# Altium schematic symbol library Buck_Conv_SCHLib.SchLib: 20 symbols (part 2 of 2)
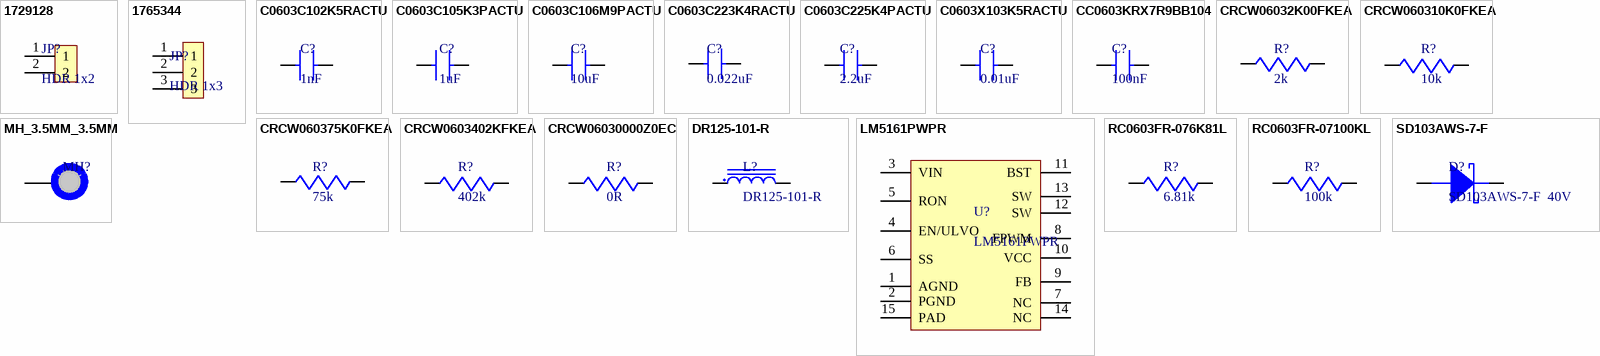
[diagram p1: symbols 1729128 to SD103AWS-7-F]

## SD103AWS-7-F
designator D?, comment SD103AWS-7-F  40V
Diode Schottky 40V 0.35A Automotive 2-Pin SOD-323 T/R; Manufacturer: Diodes; Forward Current: 350mA; Peak Non-Repetitive Surge Current: 1.5A; Element Configuration: Single; Forward Voltage: 600mV; Max Power Dissipation: 200mW; Max Reverse Current: 5uA; Reverse Recovery Time: 10ns; Polarity: Standard; Capacitance: 28pF; Current: 15A; Supplier 1: Digi-Key; Supplier Part Number 1: SD103AWS-FDICT-ND; Manufacturer Part Number: SD103AWS-7-F; RoHS: Yes; Category: Schottky Diodes; Stock 1: 26272; Pricing 1: 1=0,39000, 10=0,27400, 100=0,13830, 500=0,12258, 1000=0,09540 (USD); Mount: Surface Mount; Number of Pins: 2; Weight: 0.000173oz; Contact Plating: Tin,Matte; Min Operating Temperature: -65°C; Max Operating Temperature: 125°C; Max Repetitive Reverse Voltage (Vrrm): 40V; Packaging: Tape and Reel; Package Quantity: 3000; Average Rectified Current: 350mA; Max Forward Surge Current (Ifsm): 1.5A; Power Dissipation: 200mW; Termination: SMD/SMT; Voltage Rating (DC): 40V; Power Rating: 200mW; Current Rating: 350mA; Output Current: 350mA; Voltage: 40V; Max Reverse Voltage (DC): 40V; Series: -; Length: 1.8mm; Width: 1.4mm; Height: 1mm; Radiation Hardening: No; REACH SVHC: No SVHC; Lead Free: Lead Free; RoHS Compliant: Yes; ComponentLink1URL: https://datasheet.ciiva.com/34302/1541917-34302427.pdf?src-supplier=Jameco; ComponentLink1Description: https://datasheet.ciiva.com/34302/1541917-34302427.pdf?src-supplier=Jameco; ComponentLink2URL: https://datasheet.ciiva.com/17068/0900766b80e30fe8-17068236.pdf?src-supplier=Allied+Electronics; ComponentLink2Description: https://datasheet.ciiva.com/17068/0900766b80e30fe8-17068236.pdf?src-supplier=Allied+Electronics; ComponentLink3URL: https://datasheet.ciiva.com/15144/getdatasheetpartid-89223-15144637.pdf?src-supplier=Verical; ComponentLink3Description: https://datasheet.ciiva.com/15144/getdatasheetpartid-89223-15144637.pdf?src-supplier=Verical; ComponentLink4URL: https://datasheet.ciiva.com/912/ds30101-912900.pdf?src-supplier=Digi-Key; ComponentLink4Description: https://datasheet.ciiva.com/912/ds30101-912900.pdf?src-supplier=Digi-Key; ComponentLink5URL: https://datasheet.ciiva.com/912/ds30101-912901.pdf?src-supplier=Digi-Key; ComponentLink5Description: https://datasheet.ciiva.com/912/ds30101-912901.pdf?src-supplier=Digi-Key; ComponentLink6URL: https://datasheet.ciiva.com/16476/ds30101-16476773.pdf?src-supplier=Avnet+Asia; ComponentLink6Description: https://datasheet.ciiva.com/16476/ds30101-16476773.pdf?src-supplier=Avnet+Asia; ComponentLink7URL: https://datasheet.ciiva.com/912/ds30101-912902.pdf?src-supplier=Digi-Key; ComponentLink7Description: https://datasheet.ciiva.com/912/ds30101-912902.pdf?src-supplier=Digi-Key; ComponentLink8URL: https://datasheet.ciiva.com/22695/1911709-22695846.pdf?src-supplier=Element14; ComponentLink8Description: https://datasheet.ciiva.com/22695/1911709-22695846.pdf?src-supplier=Element14; ComponentLink9URL: https://datasheet.ciiva.com/7964/ds30101-7964328.pdf?src-supplier=Element14; ComponentLink9Description: https://datasheet.ciiva.com/7964/ds30101-7964328.pdf?src-supplier=Element14; ComponentLink10URL: https://datasheet.ciiva.com/8301/ds30101-8301401.pdf?src-supplier=Avnet; ComponentLink10Description: https://datasheet.ciiva.com/8301/ds30101-8301401.pdf?src-supplier=Avnet; ComponentLink11URL: https://datasheet.ciiva.com/25945/ds30101-25945898.pdf?src-supplier=Avnet+Europe; ComponentLink11Description: https://datasheet.ciiva.com/25945/ds30101-25945898.pdf?src-supplier=Avnet+Europe
footprint SOD323
pins: 1 Anode, 2 Cathode